# EAGLE library part DAC_MCP4921 (library akita)
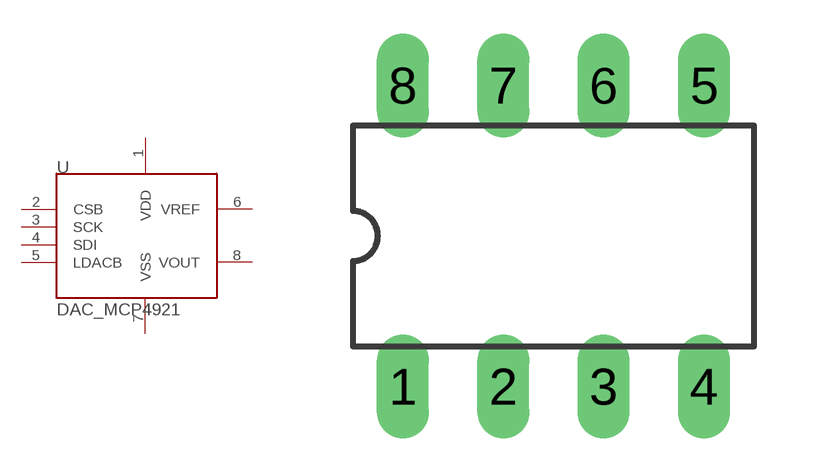
[diagram p47: symbol with the pads of DIL08; footprint DIL08]

Designator prefix -

## DAC_MCP4921DIP  [DIL08]
1  VDD
2  CSB
3  SCK
4  SDI
5  LDACB
6  VREF
7  VSS
8  VOUT

## Footprint DIL08 (pad centres in mm)
Dual In Line
drill 0.813 long: 1 -3.81,-3.81; 2 -1.27,-3.81; 3 1.27,-3.81; 4 3.81,-3.81; 5 3.81,3.81; 6 1.27,3.81; 7 -1.27,3.81; 8 -3.81,3.81